# EAGLE library part LT3092ETS8TRPBF (library LT3092_SOT23-8)
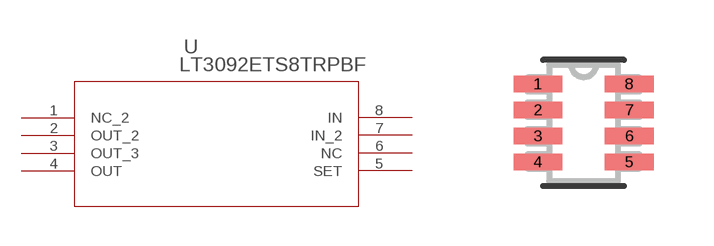
[diagram p0: symbol with the pads of TSOT-23_TS8; footprint TSOT-23_TS8]

Designator prefix U

## LT3092ETS8TRPBF (Check_prices: https://www.snapeda.com/parts/LT3092ETS8%23TRPBF/Analog+Devices/view-part/?ref=eda; Description: 200mA 2-Terminal Programmable Current Source; DigiKey_Part_Number: 505-LT3092ETS8#TRPBFTR-ND; MF: Analog Devices; MP: LT3092ETS8#TRPBF; Package: TSOT-23 Linear Technology; Purchase-URL: https://www.snapeda.com/api/url_track_click_mouser/?unipart_id=523137&manufacturer=Analog Devices&part_name=LT3092ETS8#TRPBF&search_term=None; SnapEDA_Link: https://www.snapeda.com/parts/LT3092ETS8%23TRPBF/Analog+Devices/view-part/?ref=snap)  [TSOT-23_TS8]
1  NC_2  nc
2  OUT_2  out
3  OUT_3  out
4  OUT  out
5  SET  in
6  NC  nc
7  IN_2  in
8  IN  in

## Footprint TSOT-23_TS8 (pad centres in mm)
smd 1.219 x 0.406: 1 -1.143,0.975; 2 -1.143,0.325; 3 -1.143,-0.325; 4 -1.143,-0.975; 5 1.143,-0.975; 6 1.143,-0.325; 7 1.143,0.325; 8 1.143,0.975